# EAGLE library part WE-4-WAY_MULTILINE (library wuerth-elektronik_v2)
Multiline EMI Suppression Ferrite - Filter for common mode or differential mode - High rated current with typ. 4 A -- Perfect suitable for absorption of common or differential mode interferences in the field of EMC -- High current DC output filters of power supplies e.g. battery chargers, industrial power supplies
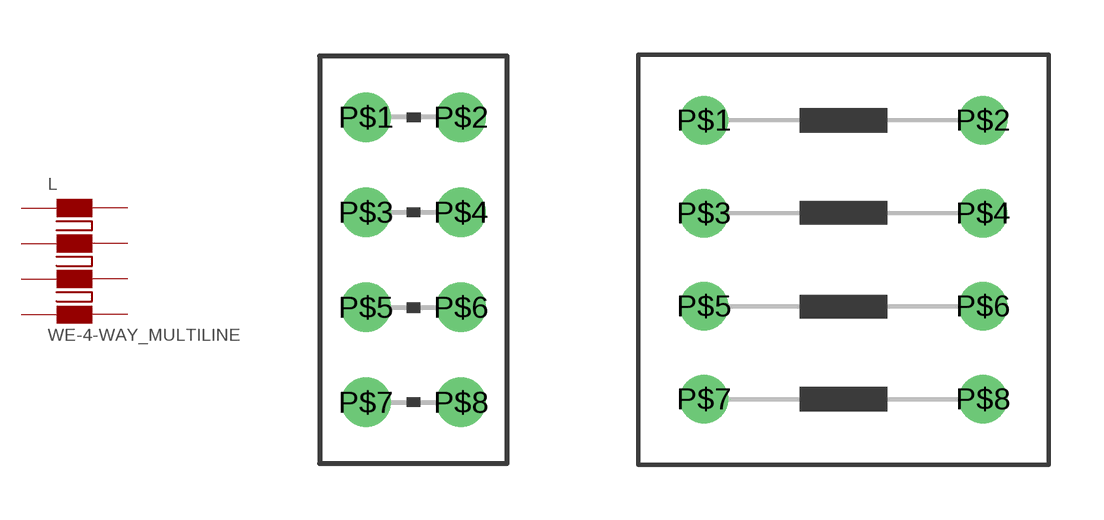
[diagram p2: symbol with the pads of WE-4WAY_74273002; footprints WE-4WAY_74273002, WE-4WAY_742730021]

Designator prefix L

## WE-4-WAY_MULTILINE_74273002  [WE-4WAY_74273002]
P$1  P$1  pas
P$2  P$2  pas
P$3  P$3  pas
P$4  P$4  pas
P$5  P$5  pas
P$6  P$6  pas
P$7  P$7  pas
P$8  P$8  pas

## WE-4-WAY_MULTILINE_742730021  [WE-4WAY_742730021]
Pads as for WE-4WAY_74273002

## WE-4-WAY_MULTILINE_742730022  [WE-4WAY_742730022]
Pads as for WE-4WAY_74273002

## WE-4-WAY_MULTILINE_742730023  [WE-4WAY_742730023]
Pads as for WE-4WAY_74273002

## Footprint WE-4WAY_74273002 (pad centres in mm)
Multiline Ferrite 4-way
drill 0.813 round: P$1 -1.27,3.81; P$2 1.27,3.81; P$3 -1.27,1.27; P$4 1.27,1.27; P$5 -1.27,-1.27; P$6 1.27,-1.27; P$7 -1.27,-3.81; P$8 1.27,-3.81

## Footprint WE-4WAY_742730021 (pad centres in mm)
Multiline Ferrite 4-way
drill 0.813 round: P$1 -3.81,3.81; P$2 3.81,3.81; P$3 -3.81,1.27; P$4 3.81,1.27; P$5 -3.81,-1.27; P$6 3.81,-1.27; P$7 -3.81,-3.81; P$8 3.81,-3.81

## Footprint WE-4WAY_742730022 (pad centres in mm)
Multiline Ferrite 4-way
drill 0.813 round: P$1 -3.81,3.81; P$2 3.81,3.81; P$3 -3.81,1.27; P$4 3.81,1.27; P$5 -3.81,-1.27; P$6 3.81,-1.27; P$7 -3.81,-3.81; P$8 3.81,-3.81

## Footprint WE-4WAY_742730023 (pad centres in mm)
Multiline Ferrite 4-way
drill 0.813 round: P$1 -3.81,3.81; P$2 3.81,3.81; P$3 -3.81,1.27; P$4 3.81,1.27; P$5 -3.81,-1.27; P$6 3.81,-1.27; P$7 -3.81,-3.81; P$8 3.81,-3.81